# Altium schematic symbol library 22-05-7048.SchLib: 1 symbol
Pins are listed as number, name and electrical type; pins without a type are passive.

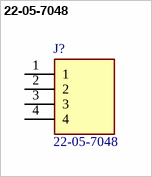
[diagram p0: symbol 22-05-7048]

## 22-05-7048
designator J?
Headers & Wire Housings 4C RA F/L HEADER; Manufacturer_Name: Molex; Geometry.Height: 5.8mm; Manufacturer_Part_Number: 22-05-7048; Mouser Part Number: 538-22-05-7048; Mouser Price/Stock: https://www.mouser.co.uk/ProductDetail/Molex/22-05-7048?qs=qjii0NTOo%252B5s41kJcR6UKA%3D%3D; Arrow Part Number: *; Arrow Price/Stock: *; Datasheet Link: https://www.molex.com/pdm_docs/sd/022057048_sd.pdf
footprint SHDRRA4W70P0X254_1X4_1016X1170X580P
pins: 1, 2, 3, 4